# Altium integrated library Elantec Video Gain Control Circuit.IntLib: 4 symbols
Pins are listed as number, name and electrical type; pins without a type are passive.

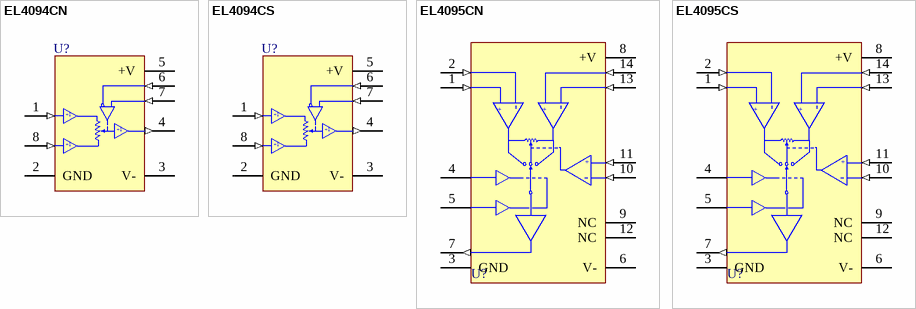
[diagram p0: symbols EL4094CN to EL4095CS]

## EL4094CN
designator U?
Video Gain Control/Fader; Published: 8-Jun-2000; LatestRevisionDate: 17-Jul-2002; LatestRevisionNote: Re-released for DXP Platform.; DatasheetVersion: Jan-1996; PackageReference: MDP0031-8; Publisher: Altium Limited; PackageDescription: DIP; 8 Leads; Row Spacing 7.62 mm; Pitch 2.54 mm; ComponentLink1Description: Manufacturer Link; ComponentLink1URL: http://www.intersil.com/cda/home/
footprint MDP0031-8 (DIP; 8 Leads; Row Spacing 7.62 mm; Pitch 2.54 mm)
simulation model EL4094 (SUBCKT)
pins: 1 INB (in), 2 GND (power), 3 V- (power), 4 OUT (out), 5 +V (power), 6 ~{VG} (in), 7 VG (in), 8 INA (in)
text: +1

## EL4094CS
designator U?
Video Gain Control/Fader; Published: 8-Jun-2000; LatestRevisionDate: 13-Apr-2006; LatestRevisionNote: IPC-7351 Footprint Added.; DatasheetVersion: Jan-1996; PackageReference: SO-8; Publisher: Altium Limited; PackageDescription: 8-Pin Small Outline Integrated Circuit 1.27 mm Pitch; ComponentLink1Description: Manufacturer Link; ComponentLink1URL: http://www.intersil.com/cda/home/
footprint SO-8_N (SOIC, 8-Leads, Body 4.9x3.9mm, Pitch 1.27mm, IPC Medium Density)
footprint SO-8_L (SOIC, 8-Leads, Body 4.9x3.9mm, Pitch 1.27mm, IPC High Density)
footprint SO-8_M (SOIC, 8-Leads, Body 4.9x3.9mm, Pitch 1.27mm, IPC Low Density)
3D model SO-8 (8-Pin Small Outline Integrated Circuit 1.27 mm Pitch)
simulation model EL4094 (SUBCKT)
pins: 1 INB (in), 2 GND (power), 3 V- (power), 4 OUT (out), 5 +V (power), 6 ~{VG} (in), 7 VG (in), 8 INA (in)
text: +1

## EL4095CN
designator U?
Video Gain Contol/Fader/Multiplexer; Note: Pins 9,12 are No Connection; Published: 8-Jun-2000; LatestRevisionDate: 04-Mar-2005; LatestRevisionNote: Stylized 3D Model Added.; DatasheetVersion: Jan-1996; PackageReference: MDP0031-14; Publisher: Altium Limited; PackageDescription: DIP; 14 Leads; Row Spacing 7.62 mm; Pitch 2.54 mm; ComponentLink1Description: Manufacturer Link; ComponentLink1URL: http://www.intersil.com/cda/home/
footprint MDP0031-14 (DIP; 14 Leads; Row Spacing 7.62 mm; Pitch 2.54 mm)
3D model MDP0031-14 (DIP; 14 Leads; Row Spacing 7.62 mm; Pitch 2.54 mm)
simulation model EL4095 (SUBCKT)
pins: 1 INB+ (in), 2 INB- (in), 3 GND (power), 4 ~{FORCE A}, 5 ~{FORCE B}, 6 V- (power), 7 V OUT (out), 8 +V (power), 9 NC, 10 ~{V G} (in), 11 V G (in), 12 NC, 13 INA- (in), 14 INA+ (in)
text: +

## EL4095CS
designator U?
Video Gain Control/Fader/Multiplexer; Note: Pins 9,12 are No Connection; Published: 8-Jun-2000; LatestRevisionDate: 13-Apr-2006; LatestRevisionNote: IPC-7351 Footprint Added.; DatasheetVersion: Jan-1996; PackageReference: SO-14; Publisher: Altium Limited; PackageDescription: 14-Pin Small Outline Integrated Circuit 1.27 mm Pitch; ComponentLink1Description: Manufacturer Link; ComponentLink1URL: http://www.intersil.com/cda/home/
footprint SO-14_N (SOIC, 14-Leads, Body 8.6x3.9mm, Pitch 1.27mm, IPC Medium Density)
footprint SO-14_L (SOIC, 14-Leads, Body 8.6x3.9mm, Pitch 1.27mm, IPC High Density)
footprint SO-14_M (SOIC, 14-Leads, Body 8.6x3.9mm, Pitch 1.27mm, IPC Low Density)
3D model SO-14 (14-Pin Small Outline Integrated Circuit 1.27 mm Pitch)
simulation model EL4095 (SUBCKT)
pins: 1 INB+ (in), 2 INB- (in), 3 GND (power), 4 ~{FORCE A}, 5 ~{FORCE B}, 6 V- (power), 7 V OUT (out), 8 +V (power), 9 NC, 10 ~{V G} (in), 11 V G (in), 12 NC, 13 INA- (in), 14 INA+ (in)
text: +